# Altium schematic symbol library PT180XCT-ND.SchLib: 2 symbols
Pins are listed as number, name and electrical type; pins without a type are passive.

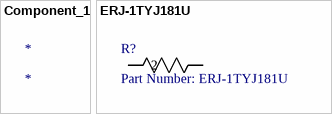
[diagram p0: symbols Component_1 to ERJ-1TYJ181U]

## Component_1
designator *

## ERJ-1TYJ181U
designator R?, comment Part Number: ERJ-1TYJ181U
No Description Available; Vendor: Panasonic; Built_By: EMA_UL_Team; Manufacturer_Part_Number: ERJ-1TYJ181U; Copyright: Copyright (C) 2018 Accelerated Designs. All rights reserved; RefDes: RefDes; Type: DEV; Value: Value
footprint RC2512N
pins: 1, 2